# Altium schematic symbol library PMDPB80XP.SchLib: 1 symbol
Pins are listed as number, name and electrical type; pins without a type are passive.

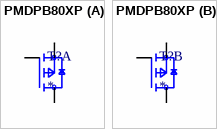
[diagram p0: symbol PMDPB80XP]

## PMDPB80XP
designator T?
20 V, dual P-channel Trench MOSFET<p> <author>AAL Eindhoven MK</author><hr><p> <img src="http://www.nxp.com/img/NXP_logo.png">; MP: PMDPB80XP; Package: None; Price: None; Value: *; Availability: Unavailable
footprint SOT1118
part A pins: 1 S, 2 G, 6 D, 7 D
part B pins: 3 D, 4, 5 G, 8 D